# Altium schematic symbol library Crys_NDK_NX3225GA-26MHZ-TI_eec.SchLib: 1 symbol
Pins are listed as number, name and electrical type; pins without a type are passive.

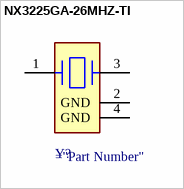
[diagram p0: symbol NX3225GA-26MHZ-TI]

## NX3225GA-26MHZ-TI
designator Y?  (value not drawn)
pins: 1, 2 GND, 3, 4 GND